# EAGLE library part 71918-110LF (library FCI_By_element14_Batch_1)
LATCH HEADER, STRAIGHT
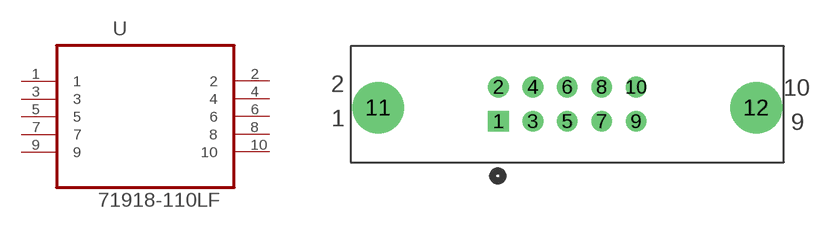
[diagram p23: symbol with the pads of FCI_71918-110LF; footprint FCI_71918-110LF]

Designator prefix U

## 71918-110LF (MPN: 71918-110LF; OC_FARNELL: 1103937; OC_NEWARK: 62K7320; PACKAGE: CON HEADER 10 WAYS; SUPPLIER: FCI)  [FCI_71918-110LF]
1  1  pas
2  2  pas
3  3  pas
4  4  pas
5  5  pas
6  6  pas
7  7  pas
8  8  pas
9  9  pas
10  10  pas

## Footprint FCI_71918-110LF (pad centres in mm)
drill 1.016 square: 1 -10.16,-2.54
drill 1.016: 2 -10.16,0; 3 -7.62,-2.54; 4 -7.62,0; 5 -5.08,-2.54; 6 -5.08,0; 7 -2.54,-2.54; 8 -2.54,0; 9 0,-2.54; 10 0,0
drill 2.794: 11 -19.05,-1.524; 12 8.89,-1.524